# EAGLE library part NLU1GT125CMUTCG (library NLU1GT125)
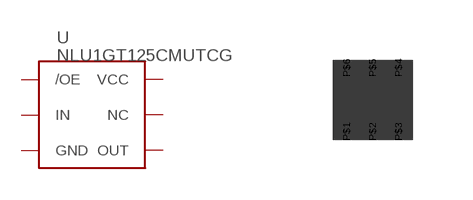
[diagram p0: symbol with the pads of UDFN-6; footprint UDFN-6]

Designator prefix -

## NLU1GT125CMUTCG  [UDFN-6]
P$1  /OE  in
P$2  IN  in
P$3  GND  pwr
P$4  OUT  out
P$5  NC  nc
P$6  VCC  pwr

## Footprint UDFN-6 (pad centres in mm)
smd 0.3 x 0.4: P$1 -0.65,-0.8; P$2 0,-0.8; P$3 0.65,-0.8; P$4 0.65,0.8; P$5 0,0.8; P$6 -0.65,0.8